# Altium schematic symbol library Schlib1.SchLib: 27 symbols
Pins are listed as number, name and electrical type; pins without a type are passive.

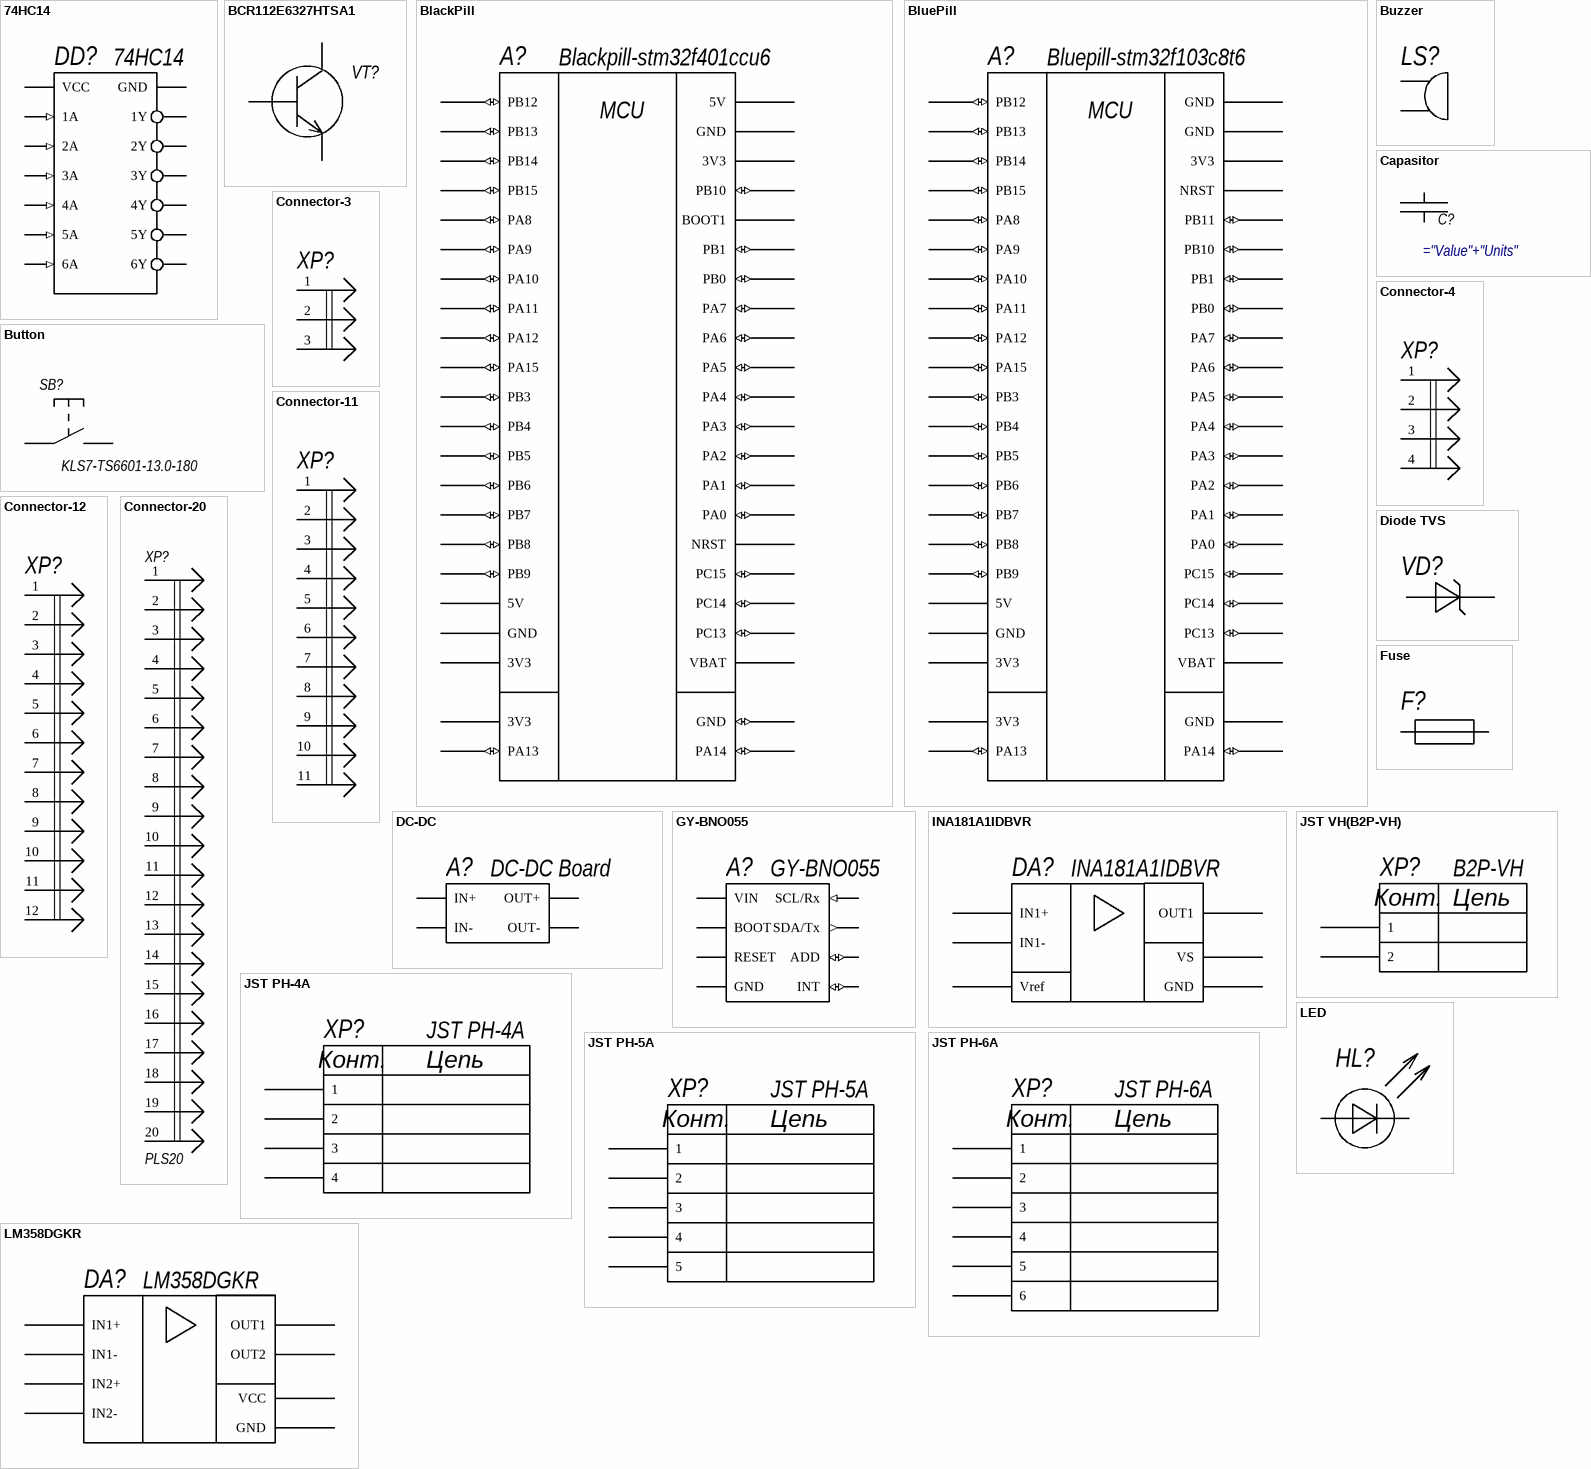
[diagram p0: symbols 74HC14 to LM358DGKR]

## 74HC14
designator DD?
Инвертирующий гестерезисный триггер Шмитта (SO14)
footprint SO-14 (SOIC, 14-Leads, Body 8,65x3,90mm, Pitch 1,27mm, IPC Medium Density)
pins: 1 1A (in) "Информационный вход Х6", 2 1Y (out) "Информационный вход Х6", 3 2A (in) "Информационный вход Х6", 4 2Y (out) "Информационный вход Х6", 5 3A (in) "Информационный вход Х6", 6 3Y (out) "Информационный вход Х6", 7 GND (power) "Информационный вход Х6", 8 4Y (out) "Информационный вход Х6", 9 4A (in) "Информационный вход Х6", 10 5Y (out) "Информационный вход Х6", 11 5A (in) "Информационный вход Х6", 12 6Y (out) "Информационный вход Х6", 13 6A (in) "Информационный вход Х6", 14 VCC (power) "Информационный вход Х6"

## BCR112E6327HTSA1
designator VT?  (value not drawn)
NPN Биполярный транзистор (SOT23)
footprint SOT23-3-BEC (SOT23, 3 pin)
pins: B, C, E

## BlackPill
designator A?, comment Blackpill-stm32f401ccu6
Отладочная плата на основе микроконтроллера stm32f401ccu6
footprint BluePill
pins: 1 PB12 (io) "Информационный вход Х6", 2 PB13 (io) "Информационный вход Х6", 3 PB14 (io) "Информационный вход Х6", 4 PB15 (io) "Информационный вход Х6", 5 PA8 (io) "Информационный вход Х6", 6 PA9 (io) "Информационный вход Х6", 7 PA10 (io) "Информационный вход Х6", 8 PA11 (io) "Информационный вход Х6", 9 PA12 (io) "Информационный вход Х6", 10 PA15 (io) "Информационный вход Х6", 11 PB3 (io) "Информационный вход Х6", 12 PB4 (io) "Информационный вход Х6", 13 PB5 (io) "Информационный вход Х6", 14 PB6 (io) "Информационный вход Х6", 15 PB7 (io) "Информационный вход Х6", 16 PB8 (io) "Информационный вход Х6", 17 PB9 (io) "Информационный вход Х6", 18 5V (power) "Информационный вход Х6", 19 GND (power) "Информационный вход Х6", 20 3V3 (power) "Информационный вход Х6", 21 5V (power) "Информационный вход Х6", 22 GND (power) "Информационный вход Х6", 23 3V3 (power) "Информационный вход Х6", 24 PB10 (io) "Информационный вход Х6", 25 BOOT1 "Информационный вход Х6", 26 PB1 (io) "Информационный вход Х6", 27 PB0 (io) "Информационный вход Х6", 28 PA7 (io) "Информационный вход Х6", 29 PA6 (io) "Информационный вход Х6", 30 PA5 (io) "Информационный вход Х6", 31 PA4 (io) "Информационный вход Х6", 32 PA3 (io) "Информационный вход Х6", 33 PA2 (io) "Информационный вход Х6", 34 PA1 (io) "Информационный вход Х6", 35 PA0 (io) "Информационный вход Х6", 36 NRST "Информационный вход Х6", 37 PC15 (io) "Информационный вход Х6", 38 PC14 (io) "Информационный вход Х6", 39 PC13 (io) "Информационный вход Х6", 40 VBAT (power) "Информационный вход Х6", 41 3V3 (power) "Информационный вход Х6", 42 PA13 (io) "Информационный вход Х6", 43 PA14 (io) "Информационный вход Х6", 44 GND (io) "Информационный вход Х6"
text: MCU

## BluePill
designator A?, comment Bluepill-stm32f103c8t6
Отладочная плата на основе микроконтроллера stm32f103c8t6
footprint BluePill
pins: 1 PB12 (io) "Информационный вход Х6", 2 PB13 (io) "Информационный вход Х6", 3 PB14 (io) "Информационный вход Х6", 4 PB15 (io) "Информационный вход Х6", 5 PA8 (io) "Информационный вход Х6", 6 PA9 (io) "Информационный вход Х6", 7 PA10 (io) "Информационный вход Х6", 8 PA11 (io) "Информационный вход Х6", 9 PA12 (io) "Информационный вход Х6", 10 PA15 (io) "Информационный вход Х6", 11 PB3 (io) "Информационный вход Х6", 12 PB4 (io) "Информационный вход Х6", 13 PB5 (io) "Информационный вход Х6", 14 PB6 (io) "Информационный вход Х6", 15 PB7 (io) "Информационный вход Х6", 16 PB8 (io) "Информационный вход Х6", 17 PB9 (io) "Информационный вход Х6", 18 5V (power) "Информационный вход Х6", 19 GND (power) "Информационный вход Х6", 20 3V3 (power) "Информационный вход Х6", 21 GND (power) "Информационный вход Х6", 22 GND (power) "Информационный вход Х6", 23 3V3 (power) "Информационный вход Х6", 24 NRST "Информационный вход Х6", 25 PB11 (io) "Информационный вход Х6", 26 PB10 (io) "Информационный вход Х6", 27 PB1 (io) "Информационный вход Х6", 28 PB0 (io) "Информационный вход Х6", 29 PA7 (io) "Информационный вход Х6", 30 PA6 (io) "Информационный вход Х6", 31 PA5 (io) "Информационный вход Х6", 32 PA4 (io) "Информационный вход Х6", 33 PA3 (io) "Информационный вход Х6", 34 PA2 (io) "Информационный вход Х6", 35 PA1 (io) "Информационный вход Х6", 36 PA0 (io) "Информационный вход Х6", 37 PC15 (io) "Информационный вход Х6", 38 PC14 (io) "Информационный вход Х6", 39 PC13 (io) "Информационный вход Х6", 40 VBAT (power) "Информационный вход Х6", 41 3V3 (power) "Информационный вход Х6", 42 PA13 (io) "Информационный вход Х6", 43 PA14 (io) "Информационный вход Х6", 44 GND (power) "Информационный вход Х6"
text: MCU

## Button
designator SB?, comment KLS7-TS6601-13.0-180
Тактовая кнопка 6x6 мм; Part number: KLS7-TS6601-13.0-180
footprint Button
pins: 1 S1, 2 S2
1 alternate drawing of the same symbol

## Buzzer
designator LS?, comment Обозначение при заказе  (value not drawn)
Зуммер 5В (D=12мм)
footprint Buzzer 12mm
pins: 1 "Информационный вход Х6", 2 "Информационный вход Х6"

## Capasitor
designator C?
Конденсатор 0603
signal-integrity model Cap
footprint C0603C
pins: 1, 2

## Connector-3
designator XP?
PLS3
footprint PLS-3
pins: 1, 2, 3

## Connector-4
designator XP?
PLS4
footprint PLS-4
pins: 1, 2, 3, 4

## Connector-11
designator XP?
PLS11
footprint PLS-11
pins: 1, 2, 3, 4, 5, 6, 7, 8, 9, 10, 11

## Connector-12
designator XP?
PLS12
footprint PLS-12
pins: 1, 2, 3, 4, 5, 6, 7, 8, 9, 10, 11, 12

## Connector-20
designator XP?, comment PLS20
footprint PLS-20
pins: 1, 2, 3, 4, 5, 6, 7, 8, 9, 10, 11, 12, 13, 14, 15, 16, 17, 18, 19, 20
2 alternate drawings of the same symbol

## DC-DC
designator A?, comment DC-DC Board
Преобразователь напряжений 12-5В
footprint DC-DC Board
pins: 1 IN- "Информационный вход Х6", 2 IN+ "Информационный вход Х6", 3 OUT+ "Информационный вход Х6", 4 OUT- "Информационный вход Х6"

## Diode TVS
designator VD?, comment Диод защитный  (value not drawn)
footprint SMB
pins: 1, 2

## Fuse
designator F?, comment ва  (value not drawn)
Предохранитель плавкий
footprint BLX-A (Держатель для предохрнителей 5x20 mm)
pins: 1, 2

## GY-BNO055
designator A?
Девятиосный датчик инерциальной навигации
footprint GY-BNO055 board
pins: 1 RESET "Информационный вход Х6", 2 BOOT "Информационный вход Х6", 3 INT (io) "Информационный вход Х6", 4 ADD (io) "Информационный вход Х6", 5 SDA/Tx (out) "Информационный вход Х6", 6 SCL/Rx (in) "Информационный вход Х6", 7 GND (power) "Информационный вход Х6", 8 VIN (power) "Информационный вход Х6"

## INA181A1IDBVR
designator DA?
Усилители операционные, дифференциальные, инструментальные, Gain 20, SOT236
footprint SOT236
pins: 1 Vref "Информационный вход Х6", 2 GND (power) "Информационный вход Х6", 3 VS "Информационный вход Х6", 4 IN1+, 5 IN1-, 6 OUT1 "Информационный вход Х6"

## JST PH-4A
designator XP?
Разъем JST4, Папа, на плату
footprint JST PH-4A
pins: 1 "Информационный вход Х6", 2 "Информационный вход Х6", 3 "Информационный вход Х6", 4 "Информационный вход Х6"
text: Конт.; Цепь

## JST PH-5A
designator XP?
Разъем JST5, Папа, на плату
footprint JST PH-5A
pins: 1 "Информационный вход Х6", 2 "Информационный вход Х6", 3 "Информационный вход Х6", 4 "Информационный вход Х6", 5 "Информационный вход Х6"
text: Конт.; Цепь

## JST PH-6A
designator XP?
Разъем JST6, Папа, на плату
footprint JST PH-6A
pins: 1 "Информационный вход Х6", 2 "Информационный вход Х6", 3 "Информационный вход Х6", 4 "Информационный вход Х6", 5 "Информационный вход Х6", 6 "Информационный вход Х6"
text: Конт.; Цепь

## JST VH(B2P-VH)
designator XP?, comment B2P-VH
JST VH(B2P-VH)
footprint B2P-VH
pins: 1 "Информационный вход Х6", 2 "Информационный вход Х6"
text: Конт.; Цепь

## LED
designator HL?, comment Обозначение при заказе  (value not drawn)
LED 3мм
footprint ledrad3mm
pins: 1 A, 2 C

## LM358DGKR
designator DA?
Операционный усилитель, Двойной, 700 кГц, 0.3 В/мкс, 3В до 32В, ± 1.5В до ± 16В, [VSSOP-8]
footprint VSSOP-8
pins: 1 OUT1 "Информационный вход Х6", 2 IN1-, 3 IN1+, 4 GND (power) "Информационный вход Х6", 5 IN2+, 6 IN2-, 7 OUT2 "Информационный вход Х6", 8 VCC "Информационный вход Х6"

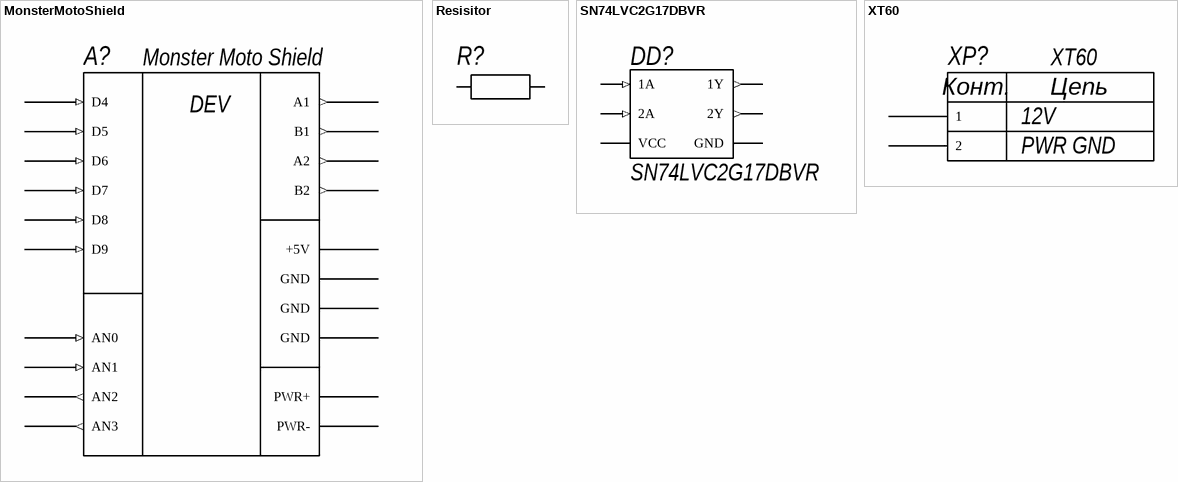
[diagram p1: symbols MonsterMotoShield to XT60]

## MonsterMotoShield
designator A?, comment Monster Moto Shield
Драйвер двигателей Monster Moto Shield построен на базе чипа VNH2SP30, что позволяет управлять, как скоростью движения, так и направлением подключённых двигателей, а так же блокировать моторы и считывать ток потребления, используя аналоговые выводы Arduino.
footprint Monster Moto Shield
pins: 1 AN0 (in) "EN1", 2 AN1 (in) "EN2", 3 AN2 (out) "CS1", 4 AN3 (out) "CS2", 5 D4 (in) "INA2", 6 D5 (in) "PWM1", 7 D6 (in) "PWM2", 8 D7 (in) "INA1", 9 D8 (in) "INB1", 10 D9 (in) "INB2", 11 A1 (out) "Информационный вход Х6", 12 B1 (out) "Информационный вход Х6", 13 A2 (out) "Информационный вход Х6", 14 B2 (out) "Информационный вход Х6", 16 GND (power) "Информационный вход Х6", 17 GND (power) "Информационный вход Х6", 18 GND (power) "Информационный вход Х6", 19 +5V (power) "Информационный вход Х6", 20 PWR+ (power) "Информационный вход Х6", 21 PWR- (power) "Информационный вход Х6"
text: DEV

## Resisitor
designator R?, comment ва  (value not drawn)
Резистор постоянный
footprint R0603
footprint Res 1/4w
footprint R1210
pins: 1, 2

## SN74LVC2G17DBVR
designator DD?
Сдвоенный буфер с триггером Шмитта на входе
footprint SOT-23-6
pins: 1 1A (in) "Информационный вход Х6", 2 GND (power) "Информационный вход Х6", 3 2A (in) "Информационный вход Х6", 4 2Y (out) "Информационный вход Х6", 5 VCC (power) "Информационный вход Х6", 6 1Y (out) "Информационный вход Х6"

## XT60
designator XP?
footprint XT60UPB-M
pins: 1 (power) "Информационный вход Х6", 2 (power) "Информационный вход Х6"
text: Конт.; Цепь; 12V; PWR GND